# EAGLE library part PINHEAD_PINHD-2X5 (library video-max5)
PIN HEADER
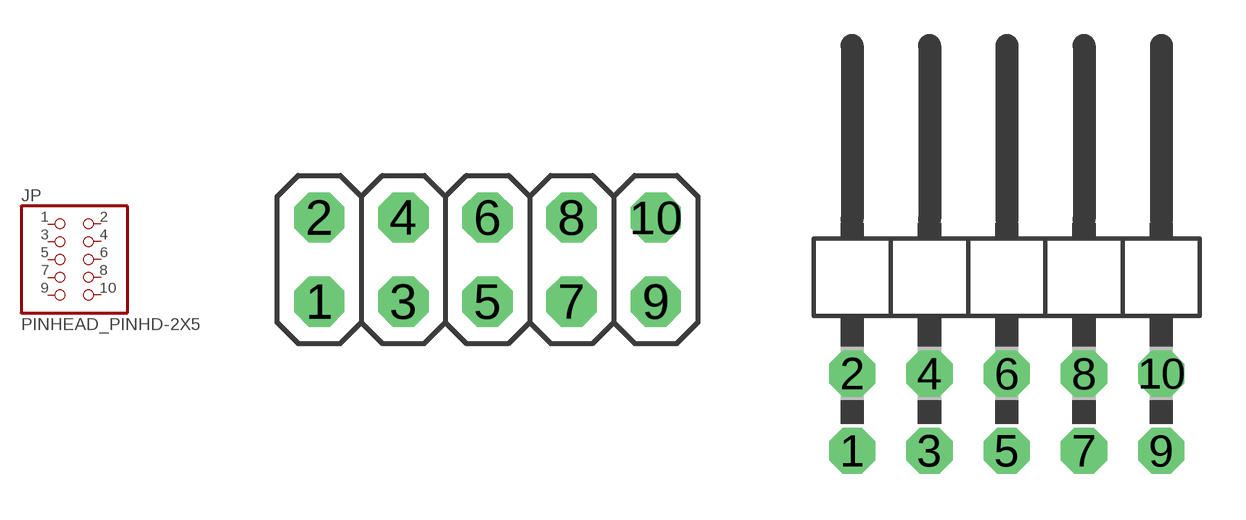
[diagram p10: symbol with the pads of PINHEAD_2X05; footprints PINHEAD_2X05, PINHEAD_2X05/90]

Designator prefix JP

## PINHEAD_PINHD-2X5  [PINHEAD_2X05]
1  1  pas
2  2  pas
3  3  pas
4  4  pas
5  5  pas
6  6  pas
7  7  pas
8  8  pas
9  9  pas
10  10  pas

## PINHEAD_PINHD-2X5/90  [PINHEAD_2X05/90]
Pads as for PINHEAD_2X05

## Footprint PINHEAD_2X05 (pad centres in mm)
PIN HEADER
drill 1.016 octagon: 1 -5.08,-1.27; 2 -5.08,1.27; 3 -2.54,-1.27; 4 -2.54,1.27; 5 0,-1.27; 6 0,1.27; 7 2.54,-1.27; 8 2.54,1.27; 9 5.08,-1.27; 10 5.08,1.27

## Footprint PINHEAD_2X05/90 (pad centres in mm)
PIN HEADER
drill 1.016 octagon: 1 -5.08,-6.35; 2 -5.08,-3.81; 3 -2.54,-6.35; 4 -2.54,-3.81; 5 0,-6.35; 6 0,-3.81; 7 2.54,-6.35; 8 2.54,-3.81; 9 5.08,-6.35; 10 5.08,-3.81